# EAGLE library part MAX5035 (library max5035)
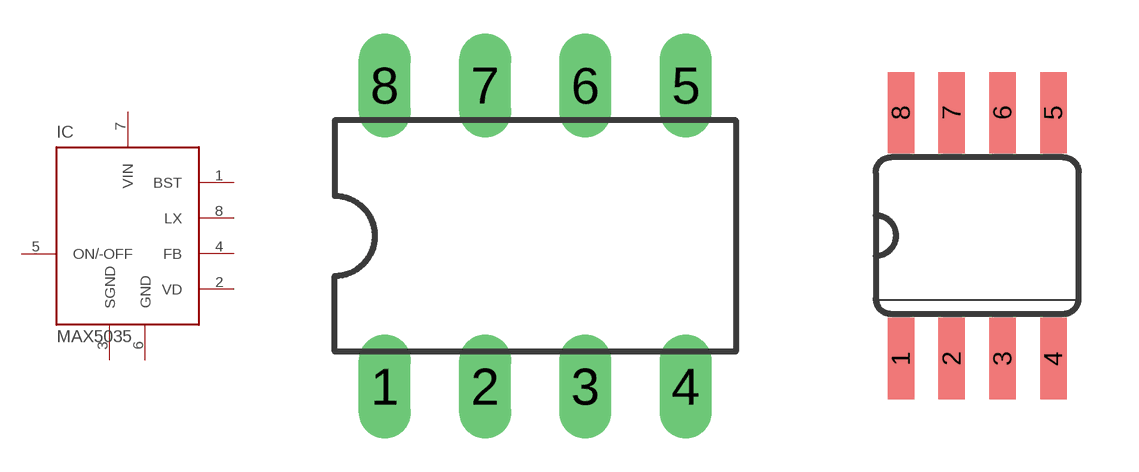
[diagram p0: symbol with the pads of DIL08; footprints DIL08, SO08]

Designator prefix IC

## MAX5035AUPA  [DIL08]
1  BST  in
2  VD  out
3  SGND  pwr
4  FB  in
5  ON/-OFF  in
6  GND  pwr
7  VIN  pwr
8  LX  out

## MAX5035AUSA  [SO08]
Pads as for DIL08

## MAX5035BUPA  [DIL08]
Pads as for DIL08

## MAX5035CUPA  [DIL08]
Pads as for DIL08

## MAX5035DUPA  [DIL08]
Pads as for DIL08

## MAX5035AASA  [SO08]
Pads as for DIL08

## MAX5035BUSA  [SO08]
Pads as for DIL08

## MAX5035BASA  [SO08]
Pads as for DIL08

## MAX5035CUSA  [SO08]
Pads as for DIL08

## MAX5035CASA  [SO08]
Pads as for DIL08

## MAX5035DUSA  [SO08]
Pads as for DIL08

## MAX5035DASA  [SO08]
Pads as for DIL08

## Footprint DIL08 (pad centres in mm)
drill 0.813 long: 1 -3.81,-3.81; 2 -1.27,-3.81; 3 1.27,-3.81; 4 3.81,-3.81; 5 3.81,3.81; 6 1.27,3.81; 7 -1.27,3.81; 8 -3.81,3.81

## Footprint SO08 (pad centres in mm)
smd 0.66 x 2.032: 1 -1.905,-3.073; 2 -0.635,-3.073; 3 0.635,-3.073; 4 1.905,-3.073; 5 1.905,3.073; 6 0.635,3.073; 7 -0.635,3.073; 8 -1.905,3.073